# EAGLE library part 0713085440 (library Badge_v202004081200_Eagle_Library_regex)
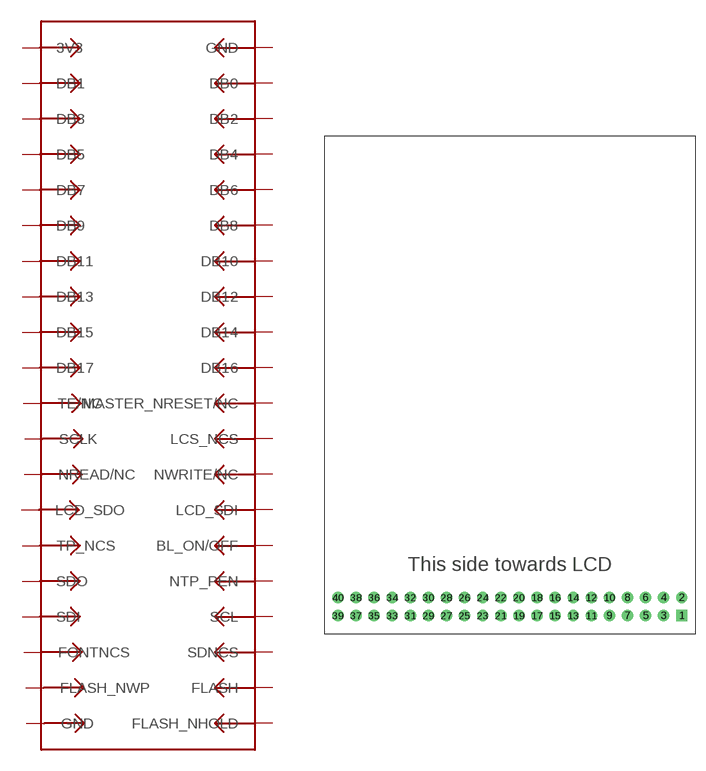
[diagram p0: symbol with the pads of TE_HDR-2X20TH_2.54X2.54_50X15; footprint TE_HDR-2X20TH_2.54X2.54_50X15]

Designator prefix J

## 0713085440 (DATASHEET: http://datasheets.diptrace.com/con_headers/015916502_sd.pdf; MANUFACTURER: Molex; VALUE: DNP)  [TE_HDR-2X20TH_2.54X2.54_50X15]
1  GND  pas
2  3V3  pas
3  DB0  pas
4  DB1  pas
5  DB2  pas
6  DB3  pas
7  DB4  pas
8  DB5  pas
9  DB6  pas
10  DB7  pas
11  DB8  pas
12  DB9  pas
13  DB10  pas
14  DB11  pas
15  DB12  pas
16  DB13  pas
17  DB14  pas
18  DB15  pas
19  DB16  pas
20  DB17  pas
21  MASTER_NRESET/NC  pas
22  TE/NC  pas
23  LCS_NCS  pas
24  SCLK  pas
25  NWRITE/NC  pas
26  NREAD/NC  pas
27  LCD_SDI  pas
28  LCD_SDO  pas
29  BL_ON/OFF  pas
30  TP_NCS  pas
31  NTP_PEN  pas
32  SDO  pas
33  SCL  pas
34  SDI  pas
35  SDNCS  pas
36  FONTNCS  pas
37  FLASH  pas
38  FLASH_NWP  pas
39  FLASH_NHOLD  pas
40  GND  pas

## Footprint TE_HDR-2X20TH_2.54X2.54_50X15 (pad centres in mm)
drill 1 pad 1.6 square: 1 24.13,-1.27
drill 1 pad 1.6: 2 24.13,1.27; 3 21.59,-1.27; 4 21.59,1.27; 5 19.05,-1.27; 6 19.05,1.27; 7 16.51,-1.27; 8 16.51,1.27; 9 13.97,-1.27; 10 13.97,1.27; 11 11.43,-1.27; 12 11.43,1.27; 13 8.89,-1.27; 14 8.89,1.27; 15 6.35,-1.27; 16 6.35,1.27; 17 3.81,-1.27; 18 3.81,1.27; 19 1.27,-1.27; 20 1.27,1.27; 21 -1.27,-1.27; 22 -1.27,1.27; 23 -3.81,-1.27; 24 -3.81,1.27; 25 -6.35,-1.27; 26 -6.35,1.27; 27 -8.89,-1.27; 28 -8.89,1.27; 29 -11.43,-1.27; 30 -11.43,1.27; 31 -13.97,-1.27; 32 -13.97,1.27; 33 -16.51,-1.27; 34 -16.51,1.27; 35 -19.05,-1.27; 36 -19.05,1.27; 37 -21.59,-1.27; 38 -21.59,1.27; 39 -24.13,-1.27; 40 -24.13,1.27